# Altium schematic symbol library DRV8843PWP.Schlib: 1 symbol
Pins are listed as number, name and electrical type; pins without a type are passive.

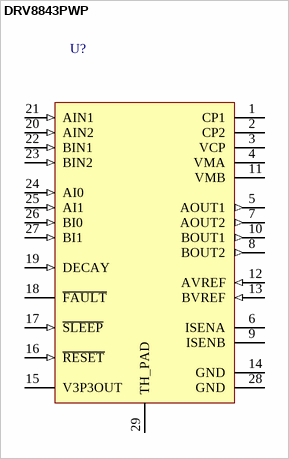
[diagram p0: symbol DRV8843PWP]

## DRV8843PWP
designator U?
45-V max, 2.5-A peak, dual h-bridge motor driver
pins: 1 CP1 (power), 2 CP2 (power), 3 VCP (power), 4 VMA (power), 5 AOUT1 (out), 6 ISENA (power), 7 AOUT2 (out), 8 BOUT2 (out), 9 ISENB (power), 10 BOUT1 (out), 11 VMB (power), 12 AVREF (in), 13 BVREF (in), 14 GND (power), 15 V3P3OUT (power), 16 ~{RESET} (in), 17 ~{SLEEP} (in), 18 ~{FAULT} (oc), 19 DECAY (in), 20 AIN2 (in), 21 AIN1 (in), 22 BIN1 (in), 23 BIN2 (in), 24 AI0 (in), 25 AI1 (in), 26 BI0 (in), 27 BI1 (in), 28 GND (power), 29 TH_PAD (power)